# Altium schematic symbol library DM542.SchLib: 1 symbol
Pins are listed as number, name and electrical type; pins without a type are passive.

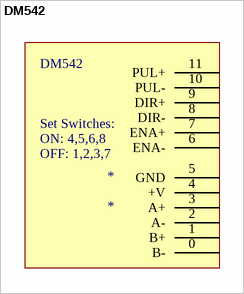
[diagram p0: symbol DM542]

## DM542
designator *
pins: 0 B-, 1 B+, 2 A-, 3 A+, 4 +V, 5 GND, 6 ENA-, 7 ENA+, 8 DIR-, 9 DIR+, 10 PUL-, 11 PUL+
text: Set Switches:; ON: 4,5,6,8; OFF: 1,2,3,7